# EAGLE library part PIC24FJXXGA00X (library pic24fj64ga002)
pic24 PIC24FJ16GA002 PIC24FJ32GA002 PIC24FJ48GA002 PIC24FJ64GA002 PIC24FJ16GA004 PIC24FJ32GA004 PIC24FJ48GA004 PIC24FJ64GA004
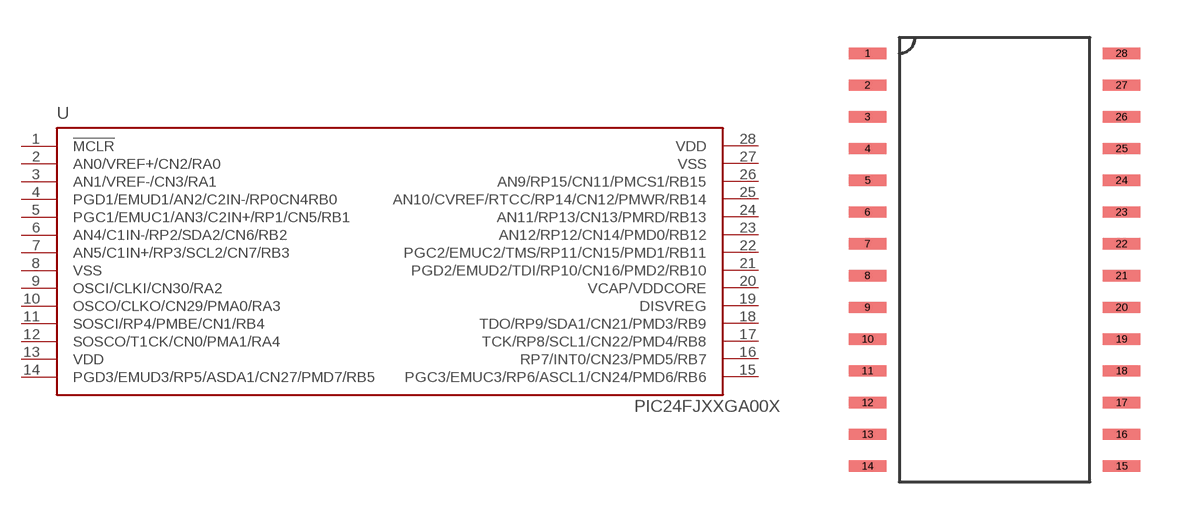
[diagram p0: symbol with the pads of SOIC28_LONG_PAD; footprint SOIC28_LONG_PAD]

Designator prefix -

## PIC24FJXXGA00X  [SOIC28_LONG_PAD]
1  !MCLR
2  AN0/VREF+/CN2/RA0
3  AN1/VREF-/CN3/RA1
4  PGD1/EMUD1/AN2/C2IN-/RP0CN4RB0
5  PGC1/EMUC1/AN3/C2IN+/RP1/CN5/RB1
6  AN4/C1IN-/RP2/SDA2/CN6/RB2
7  AN5/C1IN+/RP3/SCL2/CN7/RB3
8  VSS
9  OSCI/CLKI/CN30/RA2
10  OSCO/CLKO/CN29/PMA0/RA3
11  SOSCI/RP4/PMBE/CN1/RB4
12  SOSCO/T1CK/CN0/PMA1/RA4
13  VDD
14  PGD3/EMUD3/RP5/ASDA1/CN27/PMD7/RB5
15  PGC3/EMUC3/RP6/ASCL1/CN24/PMD6/RB6
16  RP7/INT0/CN23/PMD5/RB7
17  TCK/RP8/SCL1/CN22/PMD4/RB8
18  TDO/RP9/SDA1/CN21/PMD3/RB9
19  DISVREG
20  VCAP/VDDCORE
21  PGD2/EMUD2/TDI/RP10/CN16/PMD2/RB10
22  PGC2/EMUC2/TMS/RP11/CN15/PMD1/RB11
23  AN12/RP12/CN14/PMD0/RB12
24  AN11/RP13/CN13/PMRD/RB13
25  AN10/CVREF/RTCC/RP14/CN12/PMWR/RB14
26  AN9/RP15/CN11/PMCS1/RB15
27  VSS
28  VDD

## Footprint SOIC28_LONG_PAD (pad centres in mm)
soic28 PIC24FJ16GA002 PIC24FJ32GA002 PIC24FJ48GA002 PIC24FJ64GA002 PIC24FJ16GA004 PIC24FJ32GA004 PIC24FJ48GA004 PIC24FJ64GA004
smd 1.5 x 0.45: 1 0,0; 2 0,-1.27; 3 0,-2.54; 4 0,-3.81; 5 0,-5.08; 6 0,-6.35; 7 0,-7.62; 8 0,-8.89; 9 0,-10.16; 10 0,-11.43; 11 0,-12.7; 12 0,-13.97; 13 0,-15.24; 14 0,-16.51; 15 10.16,-16.51; 16 10.16,-15.24; 17 10.16,-13.97; 18 10.16,-12.7; 19 10.16,-11.43; 20 10.16,-10.16; 21 10.16,-8.89; 22 10.16,-7.62; 23 10.16,-6.35; 24 10.16,-5.08; 25 10.16,-3.81; 26 10.16,-2.54; 27 10.16,-1.27; 28 10.16,0